# EAGLE library part LDQ-N516RI (library Display_Custom)
https://www.lumex.com/content/files/ProductAttachment/LDQ-N516RI.pdf
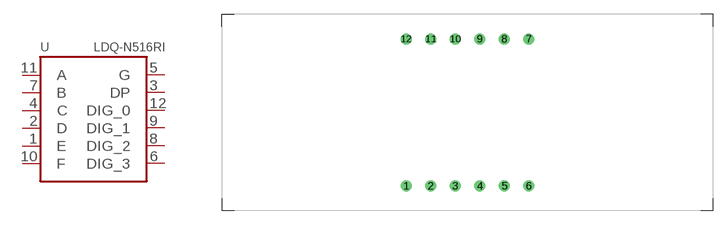
[diagram p10: symbol with the pads of 4_DIGIT_7_SEGMENT_DISPLAY_0.56"; footprint 4_DIGIT_7_SEGMENT_DISPLAY_0.56"]

Designator prefix -

## LDQ-N516RI  [4_DIGIT_7_SEGMENT_DISPLAY_0.56"]
1  E
2  D
3  DP
4  C
5  G
6  DIG_3
7  B
8  DIG_2
9  DIG_1
10  F
11  A
12  DIG_0

## Footprint 4_DIGIT_7_SEGMENT_DISPLAY_0.56" (pad centres in mm)
https://www.lumex.com/content/files/ProductAttachment/LDQ-N516RI.pdf
drill 0.635: 1 -6.35,-7.62; 2 -3.81,-7.62; 3 -1.27,-7.62; 4 1.27,-7.62; 5 3.81,-7.62; 6 6.35,-7.62; 7 6.35,7.62; 8 3.81,7.62; 9 1.27,7.62; 10 -1.27,7.62; 11 -3.81,7.62; 12 -6.35,7.62